# EAGLE library part ATTINY45 (library uC_STE)
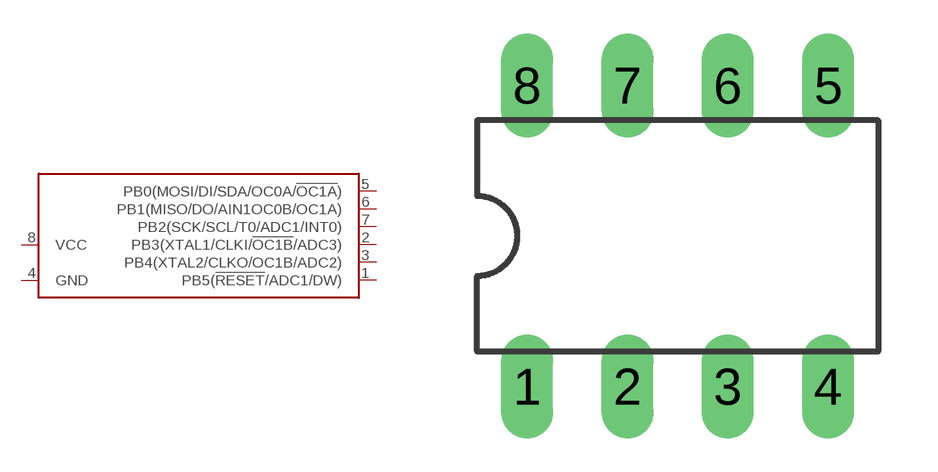
[diagram p0: symbol with the pads of DIL08; footprint DIL08]

Designator prefix -

## ATTINY45-PU  [DIL08]
1  PB5(!RESET!/ADC1/DW)
2  PB3(XTAL1/CLKI/!OC1B!/ADC3)
3  PB4(XTAL2/CLKO/OC1B/ADC2)
4  GND  pwr
5  PB0(MOSI/DI/SDA/OC0A/!OC1A!)
6  PB1(MISO/DO/AIN1OC0B/OC1A)
7  PB2(SCK/SCL/T0/ADC1/INT0)
8  VCC  pwr

## Footprint DIL08 (pad centres in mm)
Dual In Line Package
drill 0.813 long: 1 -3.81,-3.81; 2 -1.27,-3.81; 3 1.27,-3.81; 4 3.81,-3.81; 5 3.81,3.81; 6 1.27,3.81; 7 -1.27,3.81; 8 -3.81,3.81